# EAGLE library part MS5803 (library MS5803)
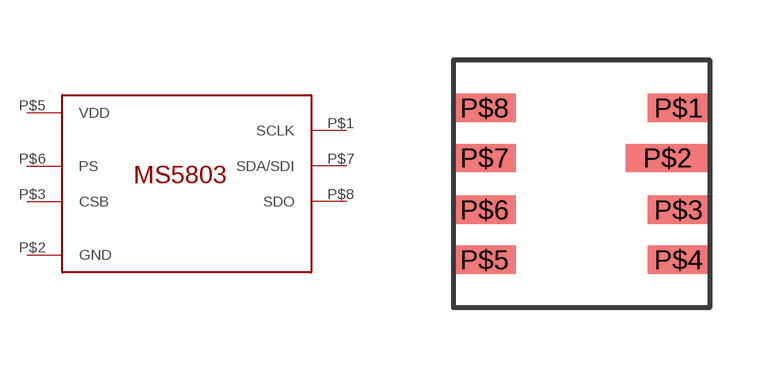
[diagram p0: symbol with the pads of MS5803; footprint MS5803]

Designator prefix -

## MS5803  [MS5803]
P$1  SCLK
P$2  GND
P$3  CSB
P$5  VDD
P$6  PS
P$7  SDA/SDI
P$8  SDO

## Footprint MS5803 (pad centres in mm)
smd 1.55 x 0.7: P$1 2.425,1.9; P$3 2.425,-0.65; P$4 2.425,-1.9; P$5 -2.425,-1.9; P$6 -2.425,-0.65; P$7 -2.425,0.65; P$8 -2.425,1.9
smd 2.1 x 0.7: P$2 2.15,0.65